# Altium footprint library MQFP-52_10x10x065P.PcbLib: 1 footprints
Each footprint in its own frame and in the unit in brackets; x right, y up, seen from the top. Pads: shape width x height; smd on the part's side, far side on the other; paste and mask are expansions set on the pad; w line width, h text height; cw(c..) or ccw(c..) is an arc to the next point about the centre after c.
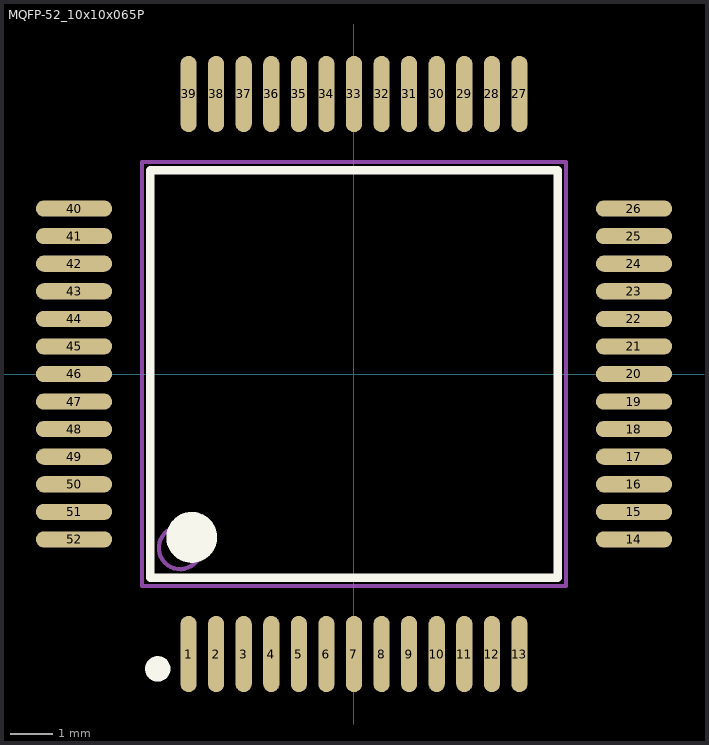
[diagram p0: the footprint, top view; thin cyan lines are the x and y axes]

## MQFP-52_10x10x065P [mm]
pads (52):
  oval 0.38x1.8 smd mask+0.051: 1(-3.9,-6.6) 2(-3.25,-6.6) 3(-2.6,-6.6) 4(-1.95,-6.6) 5(-1.3,-6.6) 6(-0.65,-6.6) 7(0,-6.6) 8(0.65,-6.6) 9(1.3,-6.6) 10(1.95,-6.6) 11(2.6,-6.6) 12(3.25,-6.6) 13(3.9,-6.6) 27(3.9,6.6) 28(3.25,6.6) 29(2.6,6.6) 30(1.95,6.6) 31(1.3,6.6) 32(0.65,6.6) 33(0,6.6) 34(-0.65,6.6) 35(-1.3,6.6) 36(-1.95,6.6) 37(-2.6,6.6) 38(-3.25,6.6) 39(-3.9,6.6)
  oval 1.8x0.38 smd mask+0.051: 14(6.6,-3.9) 15(6.6,-3.25) 16(6.6,-2.6) 17(6.6,-1.95) 18(6.6,-1.3) 19(6.6,-0.65) 20(6.6,0) 21(6.6,0.65) 22(6.6,1.3) 23(6.6,1.95) 24(6.6,2.6) 25(6.6,3.25) 26(6.6,3.9) 40(-6.6,3.9) 41(-6.6,3.25) 42(-6.6,2.6) 43(-6.6,1.95) 44(-6.6,1.3) 45(-6.6,0.65) 46(-6.6,0) 47(-6.6,-0.65) 48(-6.6,-1.3) 49(-6.6,-1.95) 50(-6.6,-2.6) 51(-6.6,-3.25) 52(-6.6,-3.9)
Top Overlay:
  circle w0.3: c-4.625,-6.95 r0.15
  circle w0.6: c-3.825,-3.85 r0.3
  lines w0.2: -4.8,-4.8 -4.8,4.8 4.8,4.8 4.8,-4.8 -4.8,-4.8
Mechanical 13:
  circle w0.1: c-4.1,-4.1 r0.5
  lines w0.1: -5,-5 -5,5 5,5 5,-5 -5,-5